# Altium integrated library TI_Logic_Specialty_Logic.IntLib: 2504 symbols (part 57 of 81)
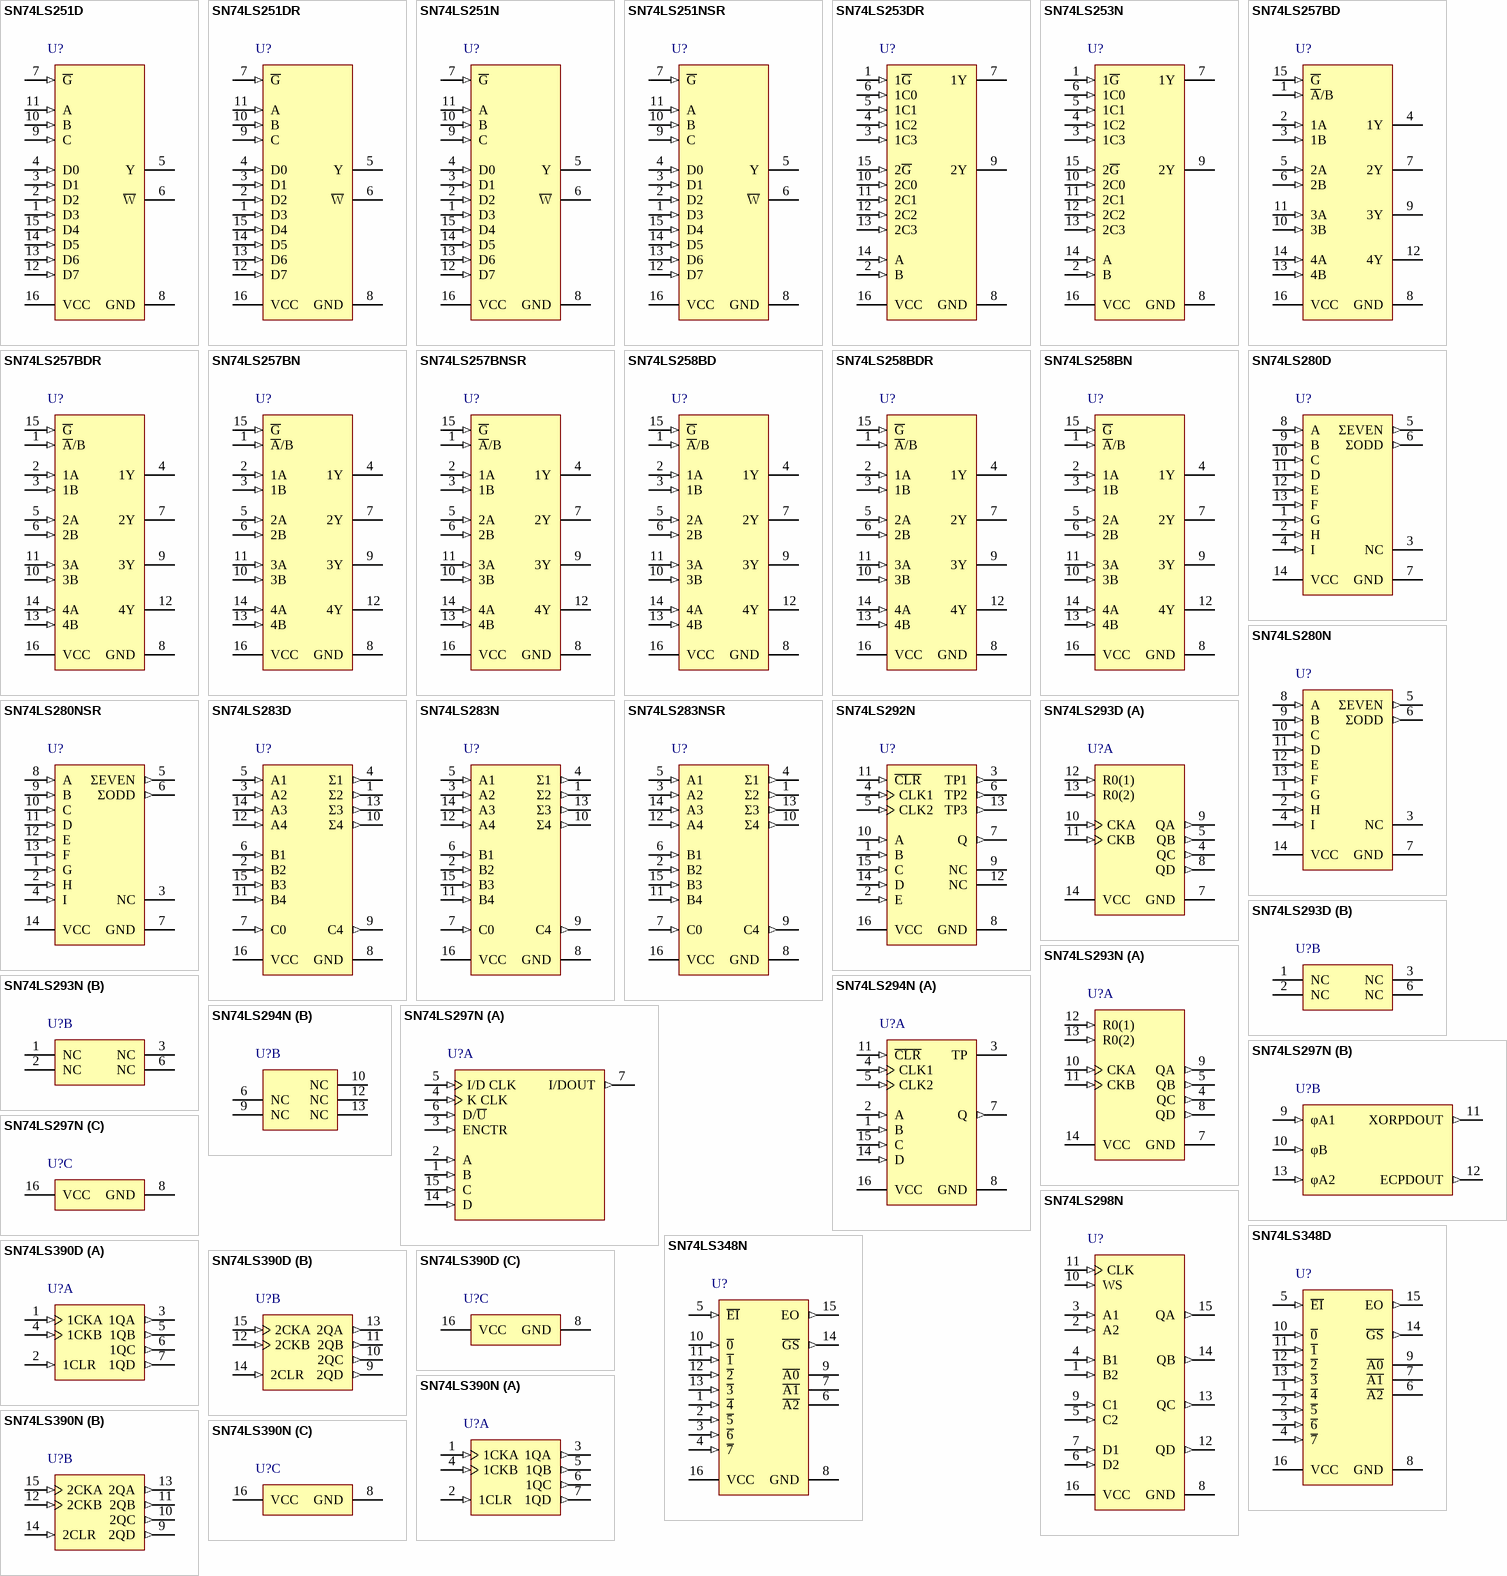
[diagram p160: symbols SN74LS251D to SN74LS390N]

## SN74LS348N
designator U?
8-Line To 3-Line Priority Encoder, N0016A, TUBE; Generic Part Number: SN74LS348; Manufacturer: Texas Instruments; PartNumber: SN74LS348N; VCC(Min)(V): 4.75; VCC(Max)(V): 5.25; Output Type: TTL; Function: Encoder/Multiplexer; ICC @ Nom Voltage(Max)(mA): 25; Bits(#): 8; F @ Nom Voltage(Max)(Mhz): 35; Configuration: 8：3; Channels(#): 1; Rating: Catalog; Technology Family: LS; Voltage(Nom)(V): 5; Schmitt Trigger: No; Output Drive (IOL/IOH)(Max)(mA): 24/-2.6; DatasheetVersion: SDLS161; PackageReference: N0016A; Supplier 1: Mouser; Supplier Part Number 1: 595-SN74LS348N; Supplier 2: Digi-Key; Supplier Part Number 2: 296-33994-5-ND; Input Type: TTL; Operating Temperature Range(C): 0 to 70; Type: 3-State Output; tpd @ Nom Voltage(Max)(ns): 35; Code_JEDEC: MS-001; ComponentLink1Description: Manufacturer URL; ComponentLink1URL: http://www.ti.com/; ComponentLink2Description: Datasheet; ComponentLink2URL: http://www.ti.com/lit/ds/symlink/sn74ls348.pdf; ComponentLink3Description: Package Specification; ComponentLink3URL: http://www.ti.com/lit/ml/mpdi002c/mpdi002c.pdf
footprint N0016A (DIP, 16-Leads, Body 19.7x6.6mm, Pitch 2.54mm)
pins: 1 ~{4} (in), 2 ~{5} (in), 3 ~{6} (in), 4 ~{7} (in), 5 ~{EI} (in), 6 ~{A2} (hiz), 7 ~{A1} (hiz), 8 GND (power), 9 ~{A0} (hiz), 10 ~{0} (in), 11 ~{1} (in), 12 ~{2} (in), 13 ~{3} (in), 14 ~{GS} (out), 15 EO (out), 16 VCC (power)

## SN74LS390D
designator U?
Dual 4-Bit Decade Counters, D0016A, TUBE; Generic Part Number: SN74LS390; Manufacturer: Texas Instruments; PartNumber: SN74LS390D; VCC(Min)(V): 4.75; VCC(Max)(V): 5.25; Output Type: CMOS; Inputs: 1; ICC @ Nom Voltage(Max)(mA): 26; Input Type: TTL; Bits(#): 4; F @ Nom Voltage(Max)(Mhz): 35; Rating: Catalog; Technology Family: LS; Voltage(Nom)(V): 5; Schmitt Trigger: No; Output Drive (IOL/IOH)(Max)(mA): 8/-0.4; tpd @ Nom Voltage(Max)(ns): 60; DatasheetVersion: SDLS107; PackageReference: D0016A; Supplier 1: Mouser; Supplier Part Number 1: 595-SN74LS390D; Supplier 2: Digi-Key; Supplier Part Number 2: 296-34004-5-ND; Function: Counter; Operating Temperature Range(C): 0 to 70; Type: Decade; Code_JEDEC: MS-012 variation AC; ComponentLink1Description: Manufacturer URL; ComponentLink1URL: http://www.ti.com/; ComponentLink2Description: Datasheet; ComponentLink2URL: http://www.ti.com/lit/ds/symlink/sn74ls390.pdf; ComponentLink3Description: Package Specification; ComponentLink3URL: http://www.ti.com/lit/ml/mpds178g/mpds178g.pdf
footprint D0016A_N (SOIC, 16-Leads, Body 10x4mm, Pitch 1.27mm, IPC Medium Density)
footprint D0016A_M (SOIC, 16-Leads, Body 10x4mm, Pitch 1.27mm, IPC Low Density)
footprint D0016A_L (SOIC, 16-Leads, Body 10x4mm, Pitch 1.27mm, IPC High Density)
part A pins: 1 1CKA (in), 2 1CLR (in), 3 1QA (out), 4 1CKB (in), 5 1QB (out), 6 1QC (out), 7 1QD (out)
part B pins: 9 2QD (out), 10 2QC (out), 11 2QB (out), 12 2CKB (in), 13 2QA (out), 14 2CLR (in), 15 2CKA (in)
part C pins: 8 GND (power), 16 VCC (power)

## SN74LS390N
designator U?
Dual 4-Bit Decade Counters, N0016A, TUBE; Generic Part Number: SN74LS390; Manufacturer: Texas Instruments; PartNumber: SN74LS390N; VCC(Min)(V): 4.75; VCC(Max)(V): 5.25; Output Type: CMOS; Inputs: 1; ICC @ Nom Voltage(Max)(mA): 26; Input Type: TTL; Bits(#): 4; F @ Nom Voltage(Max)(Mhz): 35; Rating: Catalog; Technology Family: LS; Voltage(Nom)(V): 5; Schmitt Trigger: No; Output Drive (IOL/IOH)(Max)(mA): 8/-0.4; tpd @ Nom Voltage(Max)(ns): 60; DatasheetVersion: SDLS107; PackageReference: N0016A; Supplier 1: Mouser; Supplier Part Number 1: 595-SN74LS390N; Supplier 2: Digi-Key; Supplier Part Number 2: 296-26516-5-ND; Function: Counter; Operating Temperature Range(C): 0 to 70; Type: Decade; Code_JEDEC: MS-001; ComponentLink1Description: Manufacturer URL; ComponentLink1URL: http://www.ti.com/; ComponentLink2Description: Datasheet; ComponentLink2URL: http://www.ti.com/lit/ds/symlink/sn74ls390.pdf; ComponentLink3Description: Package Specification; ComponentLink3URL: http://www.ti.com/lit/ml/mpdi002c/mpdi002c.pdf
footprint N0016A (DIP, 16-Leads, Body 19.7x6.6mm, Pitch 2.54mm)
part A pins: 1 1CKA (in), 2 1CLR (in), 3 1QA (out), 4 1CKB (in), 5 1QB (out), 6 1QC (out), 7 1QD (out)
part B pins: 9 2QD (out), 10 2QC (out), 11 2QB (out), 12 2CKB (in), 13 2QA (out), 14 2CLR (in), 15 2CKA (in)
part C pins: 8 GND (power), 16 VCC (power)

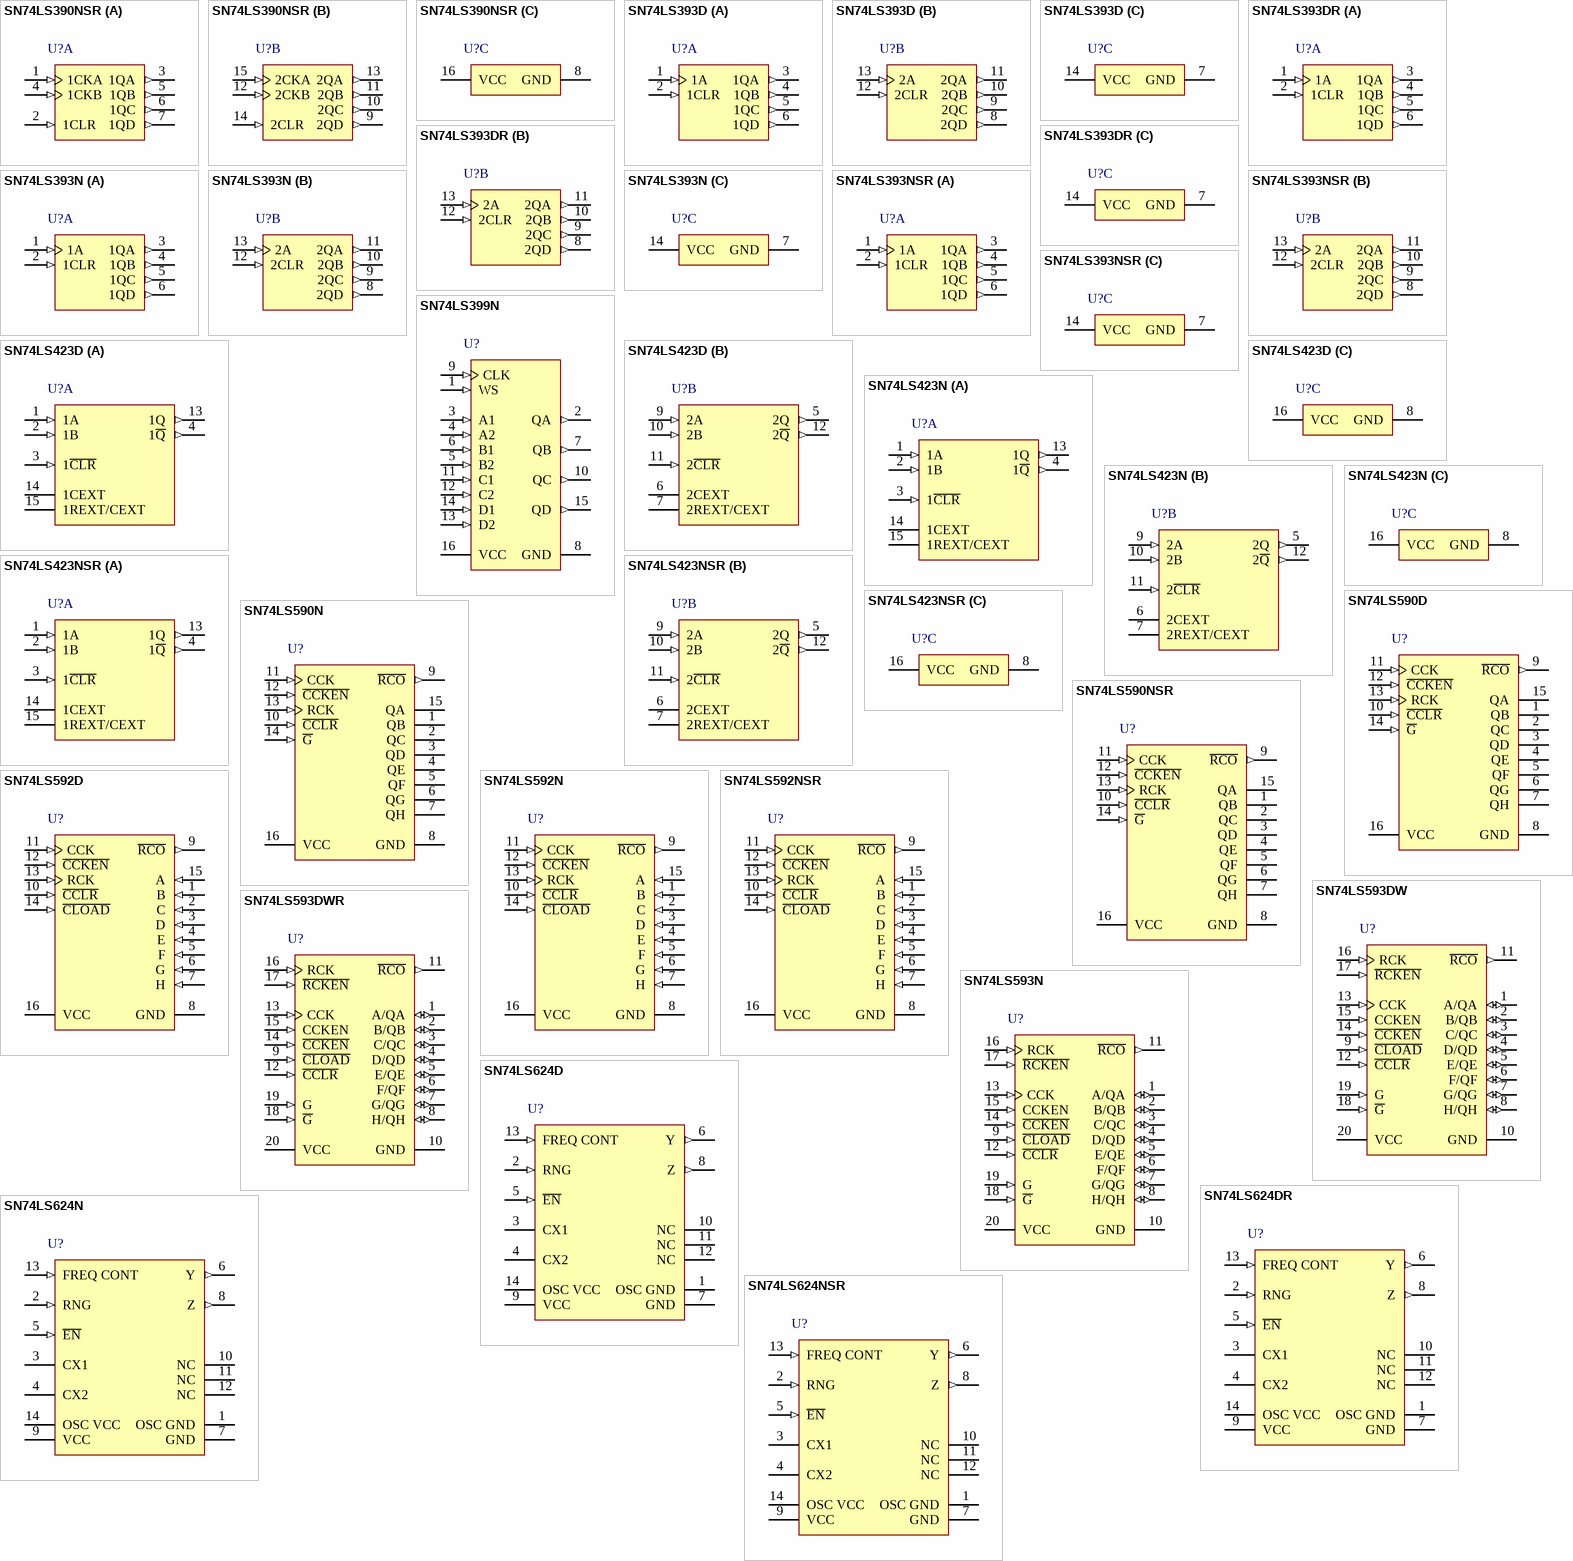
[diagram p71: symbols SN74LS390NSR to SN74LS624NSR]

## SN74LS390NSR
designator U?
Dual 4-Bit Decade Counters, NS0016A, LARGE T&R; Generic Part Number: SN74LS390; Manufacturer: Texas Instruments; PartNumber: SN74LS390NSR; VCC(Min)(V): 4.75; VCC(Max)(V): 5.25; Output Type: CMOS; Inputs: 1; ICC @ Nom Voltage(Max)(mA): 26; Input Type: TTL; Bits(#): 4; F @ Nom Voltage(Max)(Mhz): 35; Rating: Catalog; Technology Family: LS; Voltage(Nom)(V): 5; Schmitt Trigger: No; Output Drive (IOL/IOH)(Max)(mA): 8/-0.4; tpd @ Nom Voltage(Max)(ns): 60; DatasheetVersion: SDLS107; PackageReference: NS0016A; Supplier 1: Mouser; Supplier Part Number 1: 595-SN74LS390NSR; Supplier 2: Digi-Key; Supplier Part Number 2: SN74LS390NSR-ND; Function: Counter; Operating Temperature Range(C): 0 to 70; Type: Decade; ComponentLink1Description: Manufacturer URL; ComponentLink1URL: http://www.ti.com/; ComponentLink2Description: Datasheet; ComponentLink2URL: http://www.ti.com/lit/ds/symlink/sn74ls390.pdf; ComponentLink3Description: Package Specification; ComponentLink3URL: http://www.ti.com/lit/ml/msop002a/msop002a.pdf
footprint NS0016A_N (SOIC,16-Leads,Body 10.5x5.6mm,Pitch 1.27mm,IPC Medium Density)
footprint NS0016A_M (SOIC,16-Leads,Body 10.5x5.6mm,Pitch 1.27mm,IPC Low Density)
footprint NS0016A_L (SOIC,16-Leads,Body 10.5x5.6mm,Pitch 1.27mm,IPC High Density)
part A pins: 1 1CKA (in), 2 1CLR (in), 3 1QA (out), 4 1CKB (in), 5 1QB (out), 6 1QC (out), 7 1QD (out)
part B pins: 9 2QD (out), 10 2QC (out), 11 2QB (out), 12 2CKB (in), 13 2QA (out), 14 2CLR (in), 15 2CKA (in)
part C pins: 8 GND (power), 16 VCC (power)

## SN74LS393D
designator U?
Dual 4-Bit Binary Counters, D0014A, TUBE; Generic Part Number: SN74LS393; Manufacturer: Texas Instruments; PartNumber: SN74LS393D; VCC(Min)(V): 4.75; VCC(Max)(V): 5.25; Output Type: CMOS; Inputs: 1; ICC @ Nom Voltage(Max)(mA): 26; Input Type: TTL; Bits(#): 4; F @ Nom Voltage(Max)(Mhz): 35; Rating: Catalog; Technology Family: LS; Voltage(Nom)(V): 5; Schmitt Trigger: No; Output Drive (IOL/IOH)(Max)(mA): 8/-0.4; tpd @ Nom Voltage(Max)(ns): 60; DatasheetVersion: SDLS107; PackageReference: D0014A; Supplier 1: Mouser; Supplier Part Number 1: 595-SN74LS393D; Supplier 2: Digi-Key; Supplier Part Number 2: 296-3705-5-ND; Function: Counter; Operating Temperature Range(C): 0 to 70; Type: Decade; Code_JEDEC: MS-012; ComponentLink1Description: Manufacturer URL; ComponentLink1URL: http://www.ti.com/; ComponentLink2Description: Datasheet; ComponentLink2URL: http://www.ti.com/lit/ds/symlink/sn74ls393.pdf; ComponentLink3Description: Package Specification; ComponentLink3URL: http://www.ti.com/lit/ml/mpds177g/mpds177g.pdf
footprint D0014A_N (SOIC, 14-Leads, Body 8.75x4mm, Pitch 1.27mm, IPC Medium Density)
footprint D0014A_M (SOIC, 14-Leads, Body 8.75x4mm, Pitch 1.27mm, IPC Low Density)
footprint D0014A_L (SOIC, 14-Leads, Body 8.75x4mm, Pitch 1.27mm, IPC High Density)
part A pins: 1 1A (in), 2 1CLR (in), 3 1QA (out), 4 1QB (out), 5 1QC (out), 6 1QD (out)
part B pins: 8 2QD (out), 9 2QC (out), 10 2QB (out), 11 2QA (out), 12 2CLR (in), 13 2A (in)
part C pins: 7 GND (power), 14 VCC (power)

## SN74LS393DR
designator U?
Dual 4-Bit Binary Counters, D0014A, LARGE T&R; Generic Part Number: SN74LS393; Manufacturer: Texas Instruments; PartNumber: SN74LS393DR; VCC(Min)(V): 4.75; VCC(Max)(V): 5.25; Output Type: CMOS; Inputs: 1; ICC @ Nom Voltage(Max)(mA): 26; Input Type: TTL; Bits(#): 4; F @ Nom Voltage(Max)(Mhz): 35; Rating: Catalog; Technology Family: LS; Voltage(Nom)(V): 5; Schmitt Trigger: No; Output Drive (IOL/IOH)(Max)(mA): 8/-0.4; tpd @ Nom Voltage(Max)(ns): 60; DatasheetVersion: SDLS107; PackageReference: D0014A; Supplier 1: Mouser; Supplier Part Number 1: 595-SN74LS393DR; Supplier 2: Digi-Key; Supplier Part Number 2: 296-29007-2-ND; Supplier 3: Digi-Key; Supplier Part Number 3: 296-29007-1-ND; Supplier 4: Digi-Key; Supplier Part Number 4: 296-29007-6-ND; Function: Counter; Operating Temperature Range(C): 0 to 70; Type: Decade; Code_JEDEC: MS-012; ComponentLink1Description: Manufacturer URL; ComponentLink1URL: http://www.ti.com/; ComponentLink2Description: Datasheet; ComponentLink2URL: http://www.ti.com/lit/ds/symlink/sn74ls393.pdf; ComponentLink3Description: Package Specification; ComponentLink3URL: http://www.ti.com/lit/ml/mpds177g/mpds177g.pdf
footprint D0014A_N (SOIC, 14-Leads, Body 8.75x4mm, Pitch 1.27mm, IPC Medium Density)
footprint D0014A_M (SOIC, 14-Leads, Body 8.75x4mm, Pitch 1.27mm, IPC Low Density)
footprint D0014A_L (SOIC, 14-Leads, Body 8.75x4mm, Pitch 1.27mm, IPC High Density)
part A pins: 1 1A (in), 2 1CLR (in), 3 1QA (out), 4 1QB (out), 5 1QC (out), 6 1QD (out)
part B pins: 8 2QD (out), 9 2QC (out), 10 2QB (out), 11 2QA (out), 12 2CLR (in), 13 2A (in)
part C pins: 7 GND (power), 14 VCC (power)

## SN74LS393N
designator U?
Dual 4-Bit Binary Counters, N0014A, TUBE; Generic Part Number: SN74LS393; Manufacturer: Texas Instruments; PartNumber: SN74LS393N; VCC(Min)(V): 4.75; VCC(Max)(V): 5.25; Output Type: CMOS; Inputs: 1; ICC @ Nom Voltage(Max)(mA): 26; Input Type: TTL; Bits(#): 4; F @ Nom Voltage(Max)(Mhz): 35; Rating: Catalog; Technology Family: LS; Voltage(Nom)(V): 5; Schmitt Trigger: No; Output Drive (IOL/IOH)(Max)(mA): 8/-0.4; tpd @ Nom Voltage(Max)(ns): 60; DatasheetVersion: SDLS107; PackageReference: N0014A; Supplier 1: Mouser; Supplier Part Number 1: 595-SN74LS393N; Supplier 2: Digi-Key; Supplier Part Number 2: 296-1665-5-ND; Function: Counter; Operating Temperature Range(C): 0 to 70; Type: Decade; Code_JEDEC: MS-001; ComponentLink1Description: Manufacturer URL; ComponentLink1URL: http://www.ti.com/; ComponentLink2Description: Datasheet; ComponentLink2URL: http://www.ti.com/lit/ds/symlink/sn74ls393.pdf; ComponentLink3Description: Package Specification; ComponentLink3URL: http://www.ti.com/lit/ml/mpdi002c/mpdi002c.pdf
footprint N0014A (DIP, 14-Leads, Body 19.7x6.6mm, Pitch 2.54mm)
part A pins: 1 1A (in), 2 1CLR (in), 3 1QA (out), 4 1QB (out), 5 1QC (out), 6 1QD (out)
part B pins: 8 2QD (out), 9 2QC (out), 10 2QB (out), 11 2QA (out), 12 2CLR (in), 13 2A (in)
part C pins: 7 GND (power), 14 VCC (power)

## SN74LS393NSR
designator U?
Dual 4-Bit Binary Counters, NS0014A, LARGE T&R; Generic Part Number: SN74LS393; Manufacturer: Texas Instruments; PartNumber: SN74LS393NSR; VCC(Min)(V): 4.75; VCC(Max)(V): 5.25; Output Type: CMOS; Inputs: 1; ICC @ Nom Voltage(Max)(mA): 26; Input Type: TTL; Bits(#): 4; F @ Nom Voltage(Max)(Mhz): 35; Rating: Catalog; Technology Family: LS; Voltage(Nom)(V): 5; Schmitt Trigger: No; Output Drive (IOL/IOH)(Max)(mA): 8/-0.4; tpd @ Nom Voltage(Max)(ns): 60; DatasheetVersion: SDLS107; PackageReference: NS0014A; Supplier 1: Mouser; Supplier Part Number 1: 595-SN74LS393NSR; Supplier 2: Digi-Key; Supplier Part Number 2: 296-29918-2-ND; Supplier 3: Digi-Key; Supplier Part Number 3: 296-29918-1-ND; Supplier 4: Digi-Key; Supplier Part Number 4: 296-29918-6-ND; Function: Counter; Operating Temperature Range(C): 0 to 70; Type: Decade; ComponentLink1Description: Manufacturer URL; ComponentLink1URL: http://www.ti.com/; ComponentLink2Description: Datasheet; ComponentLink2URL: http://www.ti.com/lit/ds/symlink/sn74ls393.pdf; ComponentLink3Description: Package Specification; ComponentLink3URL: http://www.ti.com/lit/ml/msop002a/msop002a.pdf
footprint NS0014A_N (SOIC,14-Leads,Body 10.5x5.6mm,Pitch 1.27mm,IPC Medium Density)
footprint NS0014A_M (SOIC,14-Leads,Body 10.5x5.6mm,Pitch 1.27mm,IPC Low Density)
footprint NS0014A_L (SOIC,14-Leads,Body 10.5x5.6mm,Pitch 0.4mm,IPC High Density)
part A pins: 1 1A (in), 2 1CLR (in), 3 1QA (out), 4 1QB (out), 5 1QC (out), 6 1QD (out)
part B pins: 8 2QD (out), 9 2QC (out), 10 2QB (out), 11 2QA (out), 12 2CLR (in), 13 2A (in)
part C pins: 7 GND (power), 14 VCC (power)

## SN74LS399N
designator U?
Quadruple 2-Input Multiplexers With Storage, N0016A, TUBE; Generic Part Number: SN74LS399; Manufacturer: Texas Instruments; PartNumber: SN74LS399N; VCC(Min)(V): 4.75; VCC(Max)(V): 5.25; Output Type: TTL; Function: Decoder/Demultiplexer; ICC @ Nom Voltage(Max)(mA): 13; Bits(#): 2; F @ Nom Voltage(Max)(Mhz): 35; Configuration: 2：1; Channels(#): 4; Rating: Catalog; Technology Family: LS; Voltage(Nom)(V): 5; Schmitt Trigger: No; Output Drive (IOL/IOH)(Max)(mA): 8/-0.4; tpd @ Nom Voltage(Max)(ns): 32; DatasheetVersion: SDLS174; PackageReference: N0016A; Supplier 1: Mouser; Supplier Part Number 1: 595-SN74LS399N; Supplier 2: Digi-Key; Supplier Part Number 2: 296-14895-5-ND; Input Type: TTL; Operating Temperature Range(C): 0 to 70; Type: Standard; Code_JEDEC: MS-001; ComponentLink1Description: Manufacturer URL; ComponentLink1URL: http://www.ti.com/; ComponentLink2Description: Datasheet; ComponentLink2URL: http://www.ti.com/lit/ds/symlink/sn74ls399.pdf; ComponentLink3Description: Package Specification; ComponentLink3URL: http://www.ti.com/lit/ml/mpdi002c/mpdi002c.pdf
footprint N0016A (DIP, 16-Leads, Body 19.7x6.6mm, Pitch 2.54mm)
pins: 1 WS (in), 2 QA (out), 3 A1 (in), 4 A2 (in), 5 B2 (in), 6 B1 (in), 7 QB (out), 8 GND (power), 9 CLK (in), 10 QC (out), 11 C1 (in), 12 C2 (in), 13 D2 (in), 14 D1 (in), 15 QD (out), 16 VCC (power)

## SN74LS423D
designator U?
Dual Retriggerable Monostable Multivibrators, D0016A, TUBE; Generic Part Number: SN74LS423; Manufacturer: Texas Instruments; PartNumber: SN74LS423D; VCC(Min)(V): 4.75; VCC(Max)(V): 5.25; Output Type: TTL; ICC @ Nom Voltage(Max)(mA): 20; Bits(#): 2; F @ Nom Voltage(Max)(Mhz): 35; Rating: Catalog; Technology Family: LS; Voltage(Nom)(V): 5; Schmitt Trigger: No; Output Drive (IOL/IOH)(Max)(mA): 8/-0.4; tpd @ Nom Voltage(Max)(ns): 56; DatasheetVersion: SDLS175; PackageReference: D0016A; Supplier 1: Mouser; Supplier Part Number 1: 595-SN74LS423D; Supplier 2: Digi-Key; Supplier Part Number 2: 296-3706-5-ND; Input Type: TTL; Operating Temperature Range(C): 0 to 70; Code_JEDEC: MS-012 variation AC; ComponentLink1Description: Manufacturer URL; ComponentLink1URL: http://www.ti.com/; ComponentLink2Description: Datasheet; ComponentLink2URL: http://www.ti.com/lit/ds/symlink/sn74ls423.pdf; ComponentLink3Description: Package Specification; ComponentLink3URL: http://www.ti.com/lit/ml/mpds178g/mpds178g.pdf
footprint D0016A_N (SOIC, 16-Leads, Body 10x4mm, Pitch 1.27mm, IPC Medium Density)
footprint D0016A_M (SOIC, 16-Leads, Body 10x4mm, Pitch 1.27mm, IPC Low Density)
footprint D0016A_L (SOIC, 16-Leads, Body 10x4mm, Pitch 1.27mm, IPC High Density)
part A pins: 1 1A (in), 2 1B (in), 3 1~{CLR} (in), 4 1~{Q} (out), 13 1Q (out), 14 1CEXT, 15 1REXT/CEXT
part B pins: 5 2Q (out), 6 2CEXT, 7 2REXT/CEXT, 9 2A (in), 10 2B (in), 11 2~{CLR} (in), 12 2~{Q} (out)
part C pins: 8 GND (power), 16 VCC (power)

## SN74LS423N
designator U?
Dual Retriggerable Monostable Multivibrators, N0016A, TUBE; Generic Part Number: SN74LS423; Manufacturer: Texas Instruments; PartNumber: SN74LS423N; VCC(Min)(V): 4.75; VCC(Max)(V): 5.25; Output Type: TTL; ICC @ Nom Voltage(Max)(mA): 20; Bits(#): 2; F @ Nom Voltage(Max)(Mhz): 35; Rating: Catalog; Technology Family: LS; Voltage(Nom)(V): 5; Schmitt Trigger: No; Output Drive (IOL/IOH)(Max)(mA): 8/-0.4; tpd @ Nom Voltage(Max)(ns): 56; DatasheetVersion: SDLS175; PackageReference: N0016A; Supplier 1: Mouser; Supplier Part Number 1: 595-SN74LS423N; Supplier 2: Digi-Key; Supplier Part Number 2: 296-3707-5-ND; Input Type: TTL; Operating Temperature Range(C): 0 to 70; Code_JEDEC: MS-001; ComponentLink1Description: Manufacturer URL; ComponentLink1URL: http://www.ti.com/; ComponentLink2Description: Datasheet; ComponentLink2URL: http://www.ti.com/lit/ds/symlink/sn74ls423.pdf; ComponentLink3Description: Package Specification; ComponentLink3URL: http://www.ti.com/lit/ml/mpdi002c/mpdi002c.pdf
footprint N0016A (DIP, 16-Leads, Body 19.7x6.6mm, Pitch 2.54mm)
part A pins: 1 1A (in), 2 1B (in), 3 1~{CLR} (in), 4 1~{Q} (out), 13 1Q (out), 14 1CEXT, 15 1REXT/CEXT
part B pins: 5 2Q (out), 6 2CEXT, 7 2REXT/CEXT, 9 2A (in), 10 2B (in), 11 2~{CLR} (in), 12 2~{Q} (out)
part C pins: 8 GND (power), 16 VCC (power)

## SN74LS423NSR
designator U?
Dual Retriggerable Monostable Multivibrators, NS0016A, LARGE T&R; Generic Part Number: SN74LS423; Manufacturer: Texas Instruments; PartNumber: SN74LS423NSR; VCC(Min)(V): 4.75; VCC(Max)(V): 5.25; Output Type: TTL; ICC @ Nom Voltage(Max)(mA): 20; Bits(#): 2; F @ Nom Voltage(Max)(Mhz): 35; Rating: Catalog; Technology Family: LS; Voltage(Nom)(V): 5; Schmitt Trigger: No; Output Drive (IOL/IOH)(Max)(mA): 8/-0.4; tpd @ Nom Voltage(Max)(ns): 56; DatasheetVersion: SDLS175; PackageReference: NS0016A; Supplier 1: Mouser; Supplier Part Number 1: 595-SN74LS423NSR; Supplier 2: Digi-Key; Supplier Part Number 2: 296-28944-2-ND; Supplier 3: Digi-Key; Supplier Part Number 3: 296-28944-1-ND; Supplier 4: Digi-Key; Supplier Part Number 4: 296-28944-6-ND; Input Type: TTL; Operating Temperature Range(C): 0 to 70; ComponentLink1Description: Manufacturer URL; ComponentLink1URL: http://www.ti.com/; ComponentLink2Description: Datasheet; ComponentLink2URL: http://www.ti.com/lit/ds/symlink/sn74ls423.pdf; ComponentLink3Description: Package Specification; ComponentLink3URL: http://www.ti.com/lit/ml/msop002a/msop002a.pdf
footprint NS0016A_N (SOIC,16-Leads,Body 10.5x5.6mm,Pitch 1.27mm,IPC Medium Density)
footprint NS0016A_M (SOIC,16-Leads,Body 10.5x5.6mm,Pitch 1.27mm,IPC Low Density)
footprint NS0016A_L (SOIC,16-Leads,Body 10.5x5.6mm,Pitch 1.27mm,IPC High Density)
part A pins: 1 1A (in), 2 1B (in), 3 1~{CLR} (in), 4 1~{Q} (out), 13 1Q (out), 14 1CEXT, 15 1REXT/CEXT
part B pins: 5 2Q (out), 6 2CEXT, 7 2REXT/CEXT, 9 2A (in), 10 2B (in), 11 2~{CLR} (in), 12 2~{Q} (out)
part C pins: 8 GND (power), 16 VCC (power)

## SN74LS590D
designator U?
8-Bit Binary Counters With Output Registers And 3-State Outputs, D0016A, TUBE; Generic Part Number: SN74LS590; Manufacturer: Texas Instruments; PartNumber: SN74LS590D; VCC(Min)(V): 4.75; VCC(Max)(V): 5.25; Output Type: CMOS; Inputs: 1; ICC @ Nom Voltage(Max)(mA): 65; Input Type: TTL; Bits(#): 8; F @ Nom Voltage(Max)(Mhz): 35; Rating: Catalog; Technology Family: LS; Voltage(Nom)(V): 5; Schmitt Trigger: No; Output Drive (IOL/IOH)(Max)(mA): 24/-2.6; tpd @ Nom Voltage(Max)(ns): 45; DatasheetVersion: SDLS003; PackageReference: D0016A; Supplier 1: Mouser; Supplier Part Number 1: 595-SN74LS590D; Supplier 2: Digi-Key; Supplier Part Number 2: 296-3717-5-ND; Function: Counter; Operating Temperature Range(C): 0 to 70; Type: Binary; Code_JEDEC: MS-012 variation AC; ComponentLink1Description: Manufacturer URL; ComponentLink1URL: http://www.ti.com/; ComponentLink2Description: Datasheet; ComponentLink2URL: http://www.ti.com/lit/ds/symlink/sn74ls590.pdf; ComponentLink3Description: Package Specification; ComponentLink3URL: http://www.ti.com/lit/ml/mpds178g/mpds178g.pdf
footprint D0016A_N (SOIC, 16-Leads, Body 10x4mm, Pitch 1.27mm, IPC Medium Density)
footprint D0016A_M (SOIC, 16-Leads, Body 10x4mm, Pitch 1.27mm, IPC Low Density)
footprint D0016A_L (SOIC, 16-Leads, Body 10x4mm, Pitch 1.27mm, IPC High Density)
pins: 1 QB (hiz), 2 QC (hiz), 3 QD (hiz), 4 QE (hiz), 5 QF (hiz), 6 QG (hiz), 7 QH (hiz), 8 GND (power), 9 ~{RCO} (out), 10 ~{CCLR} (in), 11 CCK (in), 12 ~{CCKEN} (in), 13 RCK (in), 14 ~{G} (in), 15 QA (hiz), 16 VCC (power)

## SN74LS590N
designator U?
8-Bit Binary Counters With Output Registers And 3-State Outputs, N0016A, TUBE; Generic Part Number: SN74LS590; Manufacturer: Texas Instruments; PartNumber: SN74LS590N; VCC(Min)(V): 4.75; VCC(Max)(V): 5.25; Output Type: CMOS; Inputs: 1; ICC @ Nom Voltage(Max)(mA): 65; Input Type: TTL; Bits(#): 8; F @ Nom Voltage(Max)(Mhz): 35; Rating: Catalog; Technology Family: LS; Voltage(Nom)(V): 5; Schmitt Trigger: No; Output Drive (IOL/IOH)(Max)(mA): 24/-2.6; tpd @ Nom Voltage(Max)(ns): 45; DatasheetVersion: SDLS003; PackageReference: N0016A; Supplier 1: Mouser; Supplier Part Number 1: 595-SN74LS590N; Supplier 2: Digi-Key; Supplier Part Number 2: 296-3718-5-ND; Function: Counter; Operating Temperature Range(C): 0 to 70; Type: Binary; Code_JEDEC: MS-001; ComponentLink1Description: Manufacturer URL; ComponentLink1URL: http://www.ti.com/; ComponentLink2Description: Datasheet; ComponentLink2URL: http://www.ti.com/lit/ds/symlink/sn74ls590.pdf; ComponentLink3Description: Package Specification; ComponentLink3URL: http://www.ti.com/lit/ml/mpdi002c/mpdi002c.pdf
footprint N0016A (DIP, 16-Leads, Body 19.7x6.6mm, Pitch 2.54mm)
pins: 1 QB (hiz), 2 QC (hiz), 3 QD (hiz), 4 QE (hiz), 5 QF (hiz), 6 QG (hiz), 7 QH (hiz), 8 GND (power), 9 ~{RCO} (out), 10 ~{CCLR} (in), 11 CCK (in), 12 ~{CCKEN} (in), 13 RCK (in), 14 ~{G} (in), 15 QA (hiz), 16 VCC (power)

## SN74LS590NSR
designator U?
8-Bit Binary Counters With Output Registers And 3-State Outputs, NS0016A, LARGE T&R; Generic Part Number: SN74LS590; Manufacturer: Texas Instruments; PartNumber: SN74LS590NSR; VCC(Min)(V): 4.75; VCC(Max)(V): 5.25; Output Type: CMOS; Inputs: 1; ICC @ Nom Voltage(Max)(mA): 65; Input Type: TTL; Bits(#): 8; F @ Nom Voltage(Max)(Mhz): 35; Rating: Catalog; Technology Family: LS; Voltage(Nom)(V): 5; Schmitt Trigger: No; Output Drive (IOL/IOH)(Max)(mA): 24/-2.6; tpd @ Nom Voltage(Max)(ns): 45; DatasheetVersion: SDLS003; PackageReference: NS0016A; Supplier 1: Mouser; Supplier Part Number 1: 595-SN74LS590NSR; Supplier 2: Digi-Key; Supplier Part Number 2: 296-29929-2-ND; Supplier 3: Digi-Key; Supplier Part Number 3: 296-29929-1-ND; Supplier 4: Digi-Key; Supplier Part Number 4: 296-29929-6-ND; Function: Counter; Operating Temperature Range(C): 0 to 70; Type: Binary; ComponentLink1Description: Manufacturer URL; ComponentLink1URL: http://www.ti.com/; ComponentLink2Description: Datasheet; ComponentLink2URL: http://www.ti.com/lit/ds/symlink/sn74ls590.pdf; ComponentLink3Description: Package Specification; ComponentLink3URL: http://www.ti.com/lit/ml/msop002a/msop002a.pdf
footprint NS0016A_N (SOIC,16-Leads,Body 10.5x5.6mm,Pitch 1.27mm,IPC Medium Density)
footprint NS0016A_M (SOIC,16-Leads,Body 10.5x5.6mm,Pitch 1.27mm,IPC Low Density)
footprint NS0016A_L (SOIC,16-Leads,Body 10.5x5.6mm,Pitch 1.27mm,IPC High Density)
pins: 1 QB (hiz), 2 QC (hiz), 3 QD (hiz), 4 QE (hiz), 5 QF (hiz), 6 QG (hiz), 7 QH (hiz), 8 GND (power), 9 ~{RCO} (out), 10 ~{CCLR} (in), 11 CCK (in), 12 ~{CCKEN} (in), 13 RCK (in), 14 ~{G} (in), 15 QA (hiz), 16 VCC (power)

## SN74LS592D
designator U?
8-Bit Binary Counters With Input Registers, D0016A, TUBE; Generic Part Number: SN74LS592; Manufacturer: Texas Instruments; PartNumber: SN74LS592D; VCC(Min)(V): 4.75; VCC(Max)(V): 5.25; Output Type: CMOS; Inputs: 1; ICC @ Nom Voltage(Max)(mA): 60; Input Type: TTL; Bits(#): 8; F @ Nom Voltage(Max)(Mhz): 35; Rating: Catalog; Technology Family: LS; Voltage(Nom)(V): 5; Schmitt Trigger: No; Output Drive (IOL/IOH)(Max)(mA): 24/-2.6; tpd @ Nom Voltage(Max)(ns): 53; DatasheetVersion: SDLS004; PackageReference: D0016A; Supplier 1: Mouser; Supplier Part Number 1: 595-SN74LS592D; Supplier 2: Digi-Key; Supplier Part Number 2: 296-34008-5-ND; Function: Counter; Operating Temperature Range(C): 0 to 70; Type: Binary; Code_JEDEC: MS-012 variation AC; ComponentLink1Description: Manufacturer URL; ComponentLink1URL: http://www.ti.com/; ComponentLink2Description: Datasheet; ComponentLink2URL: http://www.ti.com/lit/ds/symlink/sn74ls592.pdf; ComponentLink3Description: Package Specification; ComponentLink3URL: http://www.ti.com/lit/ml/mpds178g/mpds178g.pdf
footprint D0016A_N (SOIC, 16-Leads, Body 10x4mm, Pitch 1.27mm, IPC Medium Density)
footprint D0016A_M (SOIC, 16-Leads, Body 10x4mm, Pitch 1.27mm, IPC Low Density)
footprint D0016A_L (SOIC, 16-Leads, Body 10x4mm, Pitch 1.27mm, IPC High Density)
pins: 1 B (in), 2 C (in), 3 D (in), 4 E (in), 5 F (in), 6 G (in), 7 H (in), 8 GND (power), 9 ~{RCO} (out), 10 ~{CCLR} (in), 11 CCK (in), 12 ~{CCKEN} (in), 13 RCK (in), 14 ~{CLOAD} (in), 15 A (in), 16 VCC (power)

## SN74LS592N
designator U?
8-Bit Binary Counters With Input Registers, N0016A, TUBE; Generic Part Number: SN74LS592; Manufacturer: Texas Instruments; PartNumber: SN74LS592N; VCC(Min)(V): 4.75; VCC(Max)(V): 5.25; Output Type: CMOS; Inputs: 1; ICC @ Nom Voltage(Max)(mA): 60; Input Type: TTL; Bits(#): 8; F @ Nom Voltage(Max)(Mhz): 35; Rating: Catalog; Technology Family: LS; Voltage(Nom)(V): 5; Schmitt Trigger: No; Output Drive (IOL/IOH)(Max)(mA): 24/-2.6; tpd @ Nom Voltage(Max)(ns): 53; DatasheetVersion: SDLS004; PackageReference: N0016A; Supplier 1: Mouser; Supplier Part Number 1: 595-SN74LS592N; Supplier 2: Digi-Key; Supplier Part Number 2: 296-34009-5-ND; Function: Counter; Operating Temperature Range(C): 0 to 70; Type: Binary; Code_JEDEC: MS-001; ComponentLink1Description: Manufacturer URL; ComponentLink1URL: http://www.ti.com/; ComponentLink2Description: Datasheet; ComponentLink2URL: http://www.ti.com/lit/ds/symlink/sn74ls592.pdf; ComponentLink3Description: Package Specification; ComponentLink3URL: http://www.ti.com/lit/ml/mpdi002c/mpdi002c.pdf
footprint N0016A (DIP, 16-Leads, Body 19.7x6.6mm, Pitch 2.54mm)
pins: 1 B (in), 2 C (in), 3 D (in), 4 E (in), 5 F (in), 6 G (in), 7 H (in), 8 GND (power), 9 ~{RCO} (out), 10 ~{CCLR} (in), 11 CCK (in), 12 ~{CCKEN} (in), 13 RCK (in), 14 ~{CLOAD} (in), 15 A (in), 16 VCC (power)

## SN74LS592NSR
designator U?
8-Bit Binary Counters With Input Registers, NS0016A, LARGE T&R; Generic Part Number: SN74LS592; Manufacturer: Texas Instruments; PartNumber: SN74LS592NSR; VCC(Min)(V): 4.75; VCC(Max)(V): 5.25; Output Type: CMOS; Inputs: 1; ICC @ Nom Voltage(Max)(mA): 60; Input Type: TTL; Bits(#): 8; F @ Nom Voltage(Max)(Mhz): 35; Rating: Catalog; Technology Family: LS; Voltage(Nom)(V): 5; Schmitt Trigger: No; Output Drive (IOL/IOH)(Max)(mA): 24/-2.6; tpd @ Nom Voltage(Max)(ns): 53; DatasheetVersion: SDLS004; PackageReference: NS0016A; Supplier 1: Mouser; Supplier Part Number 1: 595-SN74LS592NSR; Supplier 2: Digi-Key; Supplier Part Number 2: 296-29138-2-ND; Supplier 3: Digi-Key; Supplier Part Number 3: 296-29138-1-ND; Supplier 4: Digi-Key; Supplier Part Number 4: 296-29138-6-ND; Function: Counter; Operating Temperature Range(C): 0 to 70; Type: Binary; ComponentLink1Description: Manufacturer URL; ComponentLink1URL: http://www.ti.com/; ComponentLink2Description: Datasheet; ComponentLink2URL: http://www.ti.com/lit/ds/symlink/sn74ls592.pdf; ComponentLink3Description: Package Specification; ComponentLink3URL: http://www.ti.com/lit/ml/msop002a/msop002a.pdf
footprint NS0016A_N (SOIC,16-Leads,Body 10.5x5.6mm,Pitch 1.27mm,IPC Medium Density)
footprint NS0016A_M (SOIC,16-Leads,Body 10.5x5.6mm,Pitch 1.27mm,IPC Low Density)
footprint NS0016A_L (SOIC,16-Leads,Body 10.5x5.6mm,Pitch 1.27mm,IPC High Density)
pins: 1 B (in), 2 C (in), 3 D (in), 4 E (in), 5 F (in), 6 G (in), 7 H (in), 8 GND (power), 9 ~{RCO} (out), 10 ~{CCLR} (in), 11 CCK (in), 12 ~{CCKEN} (in), 13 RCK (in), 14 ~{CLOAD} (in), 15 A (in), 16 VCC (power)

## SN74LS593DW
designator U?
8-Bit Binary Counters With Input Registers And 3-State Outputs, DW0020A, TUBE; Generic Part Number: SN74LS593; Manufacturer: Texas Instruments; PartNumber: SN74LS593DW; VCC(Min)(V): 4.75; VCC(Max)(V): 5.25; Output Type: CMOS; Inputs: 1; ICC @ Nom Voltage(Max)(mA): 85; Input Type: TTL; Bits(#): 8; F @ Nom Voltage(Max)(Mhz): 35; Rating: Catalog; Technology Family: LS; Voltage(Nom)(V): 5; Schmitt Trigger: No; Output Drive (IOL/IOH)(Max)(mA): 24/-2.6; tpd @ Nom Voltage(Max)(ns): 63; DatasheetVersion: SDLS004; PackageReference: DW0020A; Supplier 1: Mouser; Supplier Part Number 1: 595-SN74LS593DW; Supplier 2: Digi-Key; Supplier Part Number 2: 296-34010-5-ND; Function: Counter; Operating Temperature Range(C): 0 to 70; Type: Binary; Code_JEDEC: MS-013; ComponentLink1Description: Manufacturer URL; ComponentLink1URL: http://www.ti.com/; ComponentLink2Description: Datasheet; ComponentLink2URL: http://www.ti.com/lit/ds/symlink/sn74ls593.pdf; ComponentLink3Description: Package Specification; ComponentLink3URL: http://www.ti.com/lit/ml/mpds173a/mpds173a.pdf
footprint DW0020A_N (SOIC, 20-Leads, Body 13x7.6mm, Pitch 1.27mm, IPC Medium Density)
footprint DW0020A_M (SOIC, 20-Leads, Body 13x7.6mm, Pitch 1.27mm, IPC Low Density)
footprint DW0020A_L (SOIC, 20-Leads, Body 13x7.6mm, Pitch 1.27mm, IPC High Density)
pins: 1 A/QA (io), 2 B/QB (io), 3 C/QC (io), 4 D/QD (io), 5 E/QE (io), 6 F/QF (io), 7 G/QG (io), 8 H/QH (io), 9 ~{CLOAD} (in), 10 GND (power), 11 ~{RCO} (out), 12 ~{CCLR} (in), 13 CCK (in), 14 ~{CCKEN} (in), 15 CCKEN (in), 16 RCK (in), 17 ~{RCKEN} (in), 18 ~{G} (in), 19 G (in), 20 VCC (power)

## SN74LS593DWR
designator U?
8-Bit Binary Counters With Input Registers And 3-State Outputs, DW0020A, LARGE T&R; Generic Part Number: SN74LS593; Manufacturer: Texas Instruments; PartNumber: SN74LS593DWR; VCC(Min)(V): 4.75; VCC(Max)(V): 5.25; Output Type: CMOS; Inputs: 1; ICC @ Nom Voltage(Max)(mA): 85; Input Type: TTL; Bits(#): 8; F @ Nom Voltage(Max)(Mhz): 35; Rating: Catalog; Technology Family: LS; Voltage(Nom)(V): 5; Schmitt Trigger: No; Output Drive (IOL/IOH)(Max)(mA): 24/-2.6; tpd @ Nom Voltage(Max)(ns): 63; DatasheetVersion: SDLS004; PackageReference: DW0020A; Supplier 1: Mouser; Supplier Part Number 1: 595-SN74LS593DWR; Supplier 2: Digi-Key; Supplier Part Number 2: 296-28513-2-ND; Supplier 3: Digi-Key; Supplier Part Number 3: 296-28513-1-ND; Supplier 4: Digi-Key; Supplier Part Number 4: 296-28513-6-ND; Function: Counter; Operating Temperature Range(C): 0 to 70; Type: Binary; Code_JEDEC: MS-013; ComponentLink1Description: Manufacturer URL; ComponentLink1URL: http://www.ti.com/; ComponentLink2Description: Datasheet; ComponentLink2URL: http://www.ti.com/lit/ds/symlink/sn74ls593.pdf; ComponentLink3Description: Package Specification; ComponentLink3URL: http://www.ti.com/lit/ml/mpds173a/mpds173a.pdf
footprint DW0020A_N (SOIC, 20-Leads, Body 13x7.6mm, Pitch 1.27mm, IPC Medium Density)
footprint DW0020A_M (SOIC, 20-Leads, Body 13x7.6mm, Pitch 1.27mm, IPC Low Density)
footprint DW0020A_L (SOIC, 20-Leads, Body 13x7.6mm, Pitch 1.27mm, IPC High Density)
pins: 1 A/QA (io), 2 B/QB (io), 3 C/QC (io), 4 D/QD (io), 5 E/QE (io), 6 F/QF (io), 7 G/QG (io), 8 H/QH (io), 9 ~{CLOAD} (in), 10 GND (power), 11 ~{RCO} (out), 12 ~{CCLR} (in), 13 CCK (in), 14 ~{CCKEN} (in), 15 CCKEN (in), 16 RCK (in), 17 ~{RCKEN} (in), 18 ~{G} (in), 19 G (in), 20 VCC (power)

## SN74LS593N
designator U?
8-Bit Binary Counters With Input Registers And 3-State Outputs, N0020A, TUBE; Generic Part Number: SN74LS593; Manufacturer: Texas Instruments; PartNumber: SN74LS593N; VCC(Min)(V): 4.75; VCC(Max)(V): 5.25; Output Type: CMOS; Inputs: 1; ICC @ Nom Voltage(Max)(mA): 85; Input Type: TTL; Bits(#): 8; F @ Nom Voltage(Max)(Mhz): 35; Rating: Catalog; Technology Family: LS; Voltage(Nom)(V): 5; Schmitt Trigger: No; Output Drive (IOL/IOH)(Max)(mA): 24/-2.6; tpd @ Nom Voltage(Max)(ns): 63; DatasheetVersion: SDLS004; PackageReference: N0020A; Supplier 1: Mouser; Supplier Part Number 1: 595-SN74LS593N; Supplier 2: Digi-Key; Supplier Part Number 2: 296-3719-5-ND; Function: Counter; Operating Temperature Range(C): 0 to 70; Type: Binary; Code_JEDEC: MS-001; ComponentLink1Description: Manufacturer URL; ComponentLink1URL: http://www.ti.com/; ComponentLink2Description: Datasheet; ComponentLink2URL: http://www.ti.com/lit/ds/symlink/sn74ls593.pdf; ComponentLink3Description: Package Specification; ComponentLink3URL: http://www.ti.com/lit/ml/mpdi002c/mpdi002c.pdf
footprint N0020A (DIP, 20-Leads, Body 26.9x6.6mm, Pitch 2.54mm)
pins: 1 A/QA (io), 2 B/QB (io), 3 C/QC (io), 4 D/QD (io), 5 E/QE (io), 6 F/QF (io), 7 G/QG (io), 8 H/QH (io), 9 ~{CLOAD} (in), 10 GND (power), 11 ~{RCO} (out), 12 ~{CCLR} (in), 13 CCK (in), 14 ~{CCKEN} (in), 15 CCKEN (in), 16 RCK (in), 17 ~{RCKEN} (in), 18 ~{G} (in), 19 G (in), 20 VCC (power)

## SN74LS624D
designator U?
Voltage-controlled oscillator, D0014A, TUBE; Generic Part Number: SN74LS624; Manufacturer: Texas Instruments; PartNumber: SN74LS624D; VCC(Min)(V): 4.75; VCC(Max)(V): 5.25; Output Type: TTL; ICC @ Nom Voltage(Max)(mA): 35; Bits(#): 1; Rating: Catalog; Technology Family: LS; Voltage(Nom)(V): 5; Schmitt Trigger: No; Output Drive (IOL/IOH)(Max)(mA): 24/-1.2; tpd @ Nom Voltage(Max)(ns): 15; DatasheetVersion: SDLS186; PackageReference: D0014A; Supplier 1: Mouser; Supplier Part Number 1: 595-SN74LS624D; Supplier 2: Digi-Key; Supplier Part Number 2: 296-3722-5-ND; Input Type: TTL; F @ Nom Voltage(Max)(Mhz): 35; Operating Temperature Range(C): 0 to 70; ComponentLink1Description: Manufacturer URL; ComponentLink1URL: http://www.ti.com/; ComponentLink2Description: Datasheet; ComponentLink2URL: http://www.ti.com/lit/ds/symlink/sn74ls624.pdf
footprint D0014A_N (SOIC, 14-Leads, Body 8.75x4mm, Pitch 1.27mm, IPC Medium Density)
footprint D0014A_M (SOIC, 14-Leads, Body 8.75x4mm, Pitch 1.27mm, IPC Low Density)
footprint D0014A_L (SOIC, 14-Leads, Body 8.75x4mm, Pitch 1.27mm, IPC High Density)
pins: 1 OSC GND (power), 2 RNG (in), 3 CX1, 4 CX2, 5 ~{EN} (in), 6 Y (out), 7 GND (power), 8 Z (out), 9 VCC (power), 10 NC, 11 NC, 12 NC, 13 FREQ CONT (in), 14 OSC VCC (power)

## SN74LS624DR
designator U?
Voltage-controlled oscillator, D0014A, LARGE T&R; Generic Part Number: SN74LS624; Manufacturer: Texas Instruments; PartNumber: SN74LS624DR; VCC(Min)(V): 4.75; VCC(Max)(V): 5.25; Output Type: TTL; ICC @ Nom Voltage(Max)(mA): 35; Bits(#): 1; Rating: Catalog; Technology Family: LS; Voltage(Nom)(V): 5; Schmitt Trigger: No; Output Drive (IOL/IOH)(Max)(mA): 24/-1.2; tpd @ Nom Voltage(Max)(ns): 15; DatasheetVersion: SDLS186; PackageReference: D0014A; Supplier 1: Mouser; Supplier Part Number 1: 595-SN74LS624DR; Supplier 2: Digi-Key; Supplier Part Number 2: 296-29008-2-ND; Supplier 3: Digi-Key; Supplier Part Number 3: 296-29008-1-ND; Supplier 4: Digi-Key; Supplier Part Number 4: 296-29008-6-ND; Input Type: TTL; F @ Nom Voltage(Max)(Mhz): 35; Operating Temperature Range(C): 0 to 70; ComponentLink1Description: Manufacturer URL; ComponentLink1URL: http://www.ti.com/; ComponentLink2Description: Datasheet; ComponentLink2URL: http://www.ti.com/lit/ds/symlink/sn74ls624.pdf
footprint D0014A_N (SOIC, 14-Leads, Body 8.75x4mm, Pitch 1.27mm, IPC Medium Density)
footprint D0014A_M (SOIC, 14-Leads, Body 8.75x4mm, Pitch 1.27mm, IPC Low Density)
footprint D0014A_L (SOIC, 14-Leads, Body 8.75x4mm, Pitch 1.27mm, IPC High Density)
pins: 1 OSC GND (power), 2 RNG (in), 3 CX1, 4 CX2, 5 ~{EN} (in), 6 Y (out), 7 GND (power), 8 Z (out), 9 VCC (power), 10 NC, 11 NC, 12 NC, 13 FREQ CONT (in), 14 OSC VCC (power)

## SN74LS624N
designator U?
Voltage-controlled oscillator, N0014A, TUBE; Generic Part Number: SN74LS624; Manufacturer: Texas Instruments; PartNumber: SN74LS624N; VCC(Min)(V): 4.75; VCC(Max)(V): 5.25; Output Type: TTL; ICC @ Nom Voltage(Max)(mA): 35; Bits(#): 1; Rating: Catalog; Technology Family: LS; Voltage(Nom)(V): 5; Schmitt Trigger: No; Output Drive (IOL/IOH)(Max)(mA): 24/-1.2; tpd @ Nom Voltage(Max)(ns): 15; DatasheetVersion: SDLS186; PackageReference: N0014A; Supplier 1: Mouser; Supplier Part Number 1: 595-SN74LS624N; Supplier 2: Digi-Key; Supplier Part Number 2: 296-3723-5-ND; Input Type: TTL; F @ Nom Voltage(Max)(Mhz): 35; Operating Temperature Range(C): 0 to 70; ComponentLink1Description: Manufacturer URL; ComponentLink1URL: http://www.ti.com/; ComponentLink2Description: Datasheet; ComponentLink2URL: http://www.ti.com/lit/ds/symlink/sn74ls624.pdf
footprint N0014A (DIP, 14-Leads, Body 19.7x6.6mm, Pitch 2.54mm)
pins: 1 OSC GND (power), 2 RNG (in), 3 CX1, 4 CX2, 5 ~{EN} (in), 6 Y (out), 7 GND (power), 8 Z (out), 9 VCC (power), 10 NC, 11 NC, 12 NC, 13 FREQ CONT (in), 14 OSC VCC (power)

## SN74LS624NSR
designator U?
Voltage-controlled oscillator, NS0014A, LARGE T&R; Generic Part Number: SN74LS624; Manufacturer: Texas Instruments; PartNumber: SN74LS624NSR; VCC(Min)(V): 4.75; VCC(Max)(V): 5.25; Output Type: TTL; ICC @ Nom Voltage(Max)(mA): 35; Bits(#): 1; Rating: Catalog; Technology Family: LS; Voltage(Nom)(V): 5; Schmitt Trigger: No; Output Drive (IOL/IOH)(Max)(mA): 24/-1.2; tpd @ Nom Voltage(Max)(ns): 15; DatasheetVersion: SDLS186; PackageReference: NS0014A; Supplier 1: Mouser; Supplier Part Number 1: 595-SN74LS624NSR; Supplier 2: Digi-Key; Supplier Part Number 2: SN74LS624NSR-ND; Input Type: TTL; F @ Nom Voltage(Max)(Mhz): 35; Operating Temperature Range(C): 0 to 70; ComponentLink1Description: Manufacturer URL; ComponentLink1URL: http://www.ti.com/; ComponentLink2Description: Datasheet; ComponentLink2URL: http://www.ti.com/lit/ds/symlink/sn74ls624.pdf
footprint NS0014A_N (SOIC,14-Leads,Body 10.5x5.6mm,Pitch 1.27mm,IPC Medium Density)
footprint NS0014A_M (SOIC,14-Leads,Body 10.5x5.6mm,Pitch 1.27mm,IPC Low Density)
footprint NS0014A_L (SOIC,14-Leads,Body 10.5x5.6mm,Pitch 0.4mm,IPC High Density)
pins: 1 OSC GND (power), 2 RNG (in), 3 CX1, 4 CX2, 5 ~{EN} (in), 6 Y (out), 7 GND (power), 8 Z (out), 9 VCC (power), 10 NC, 11 NC, 12 NC, 13 FREQ CONT (in), 14 OSC VCC (power)

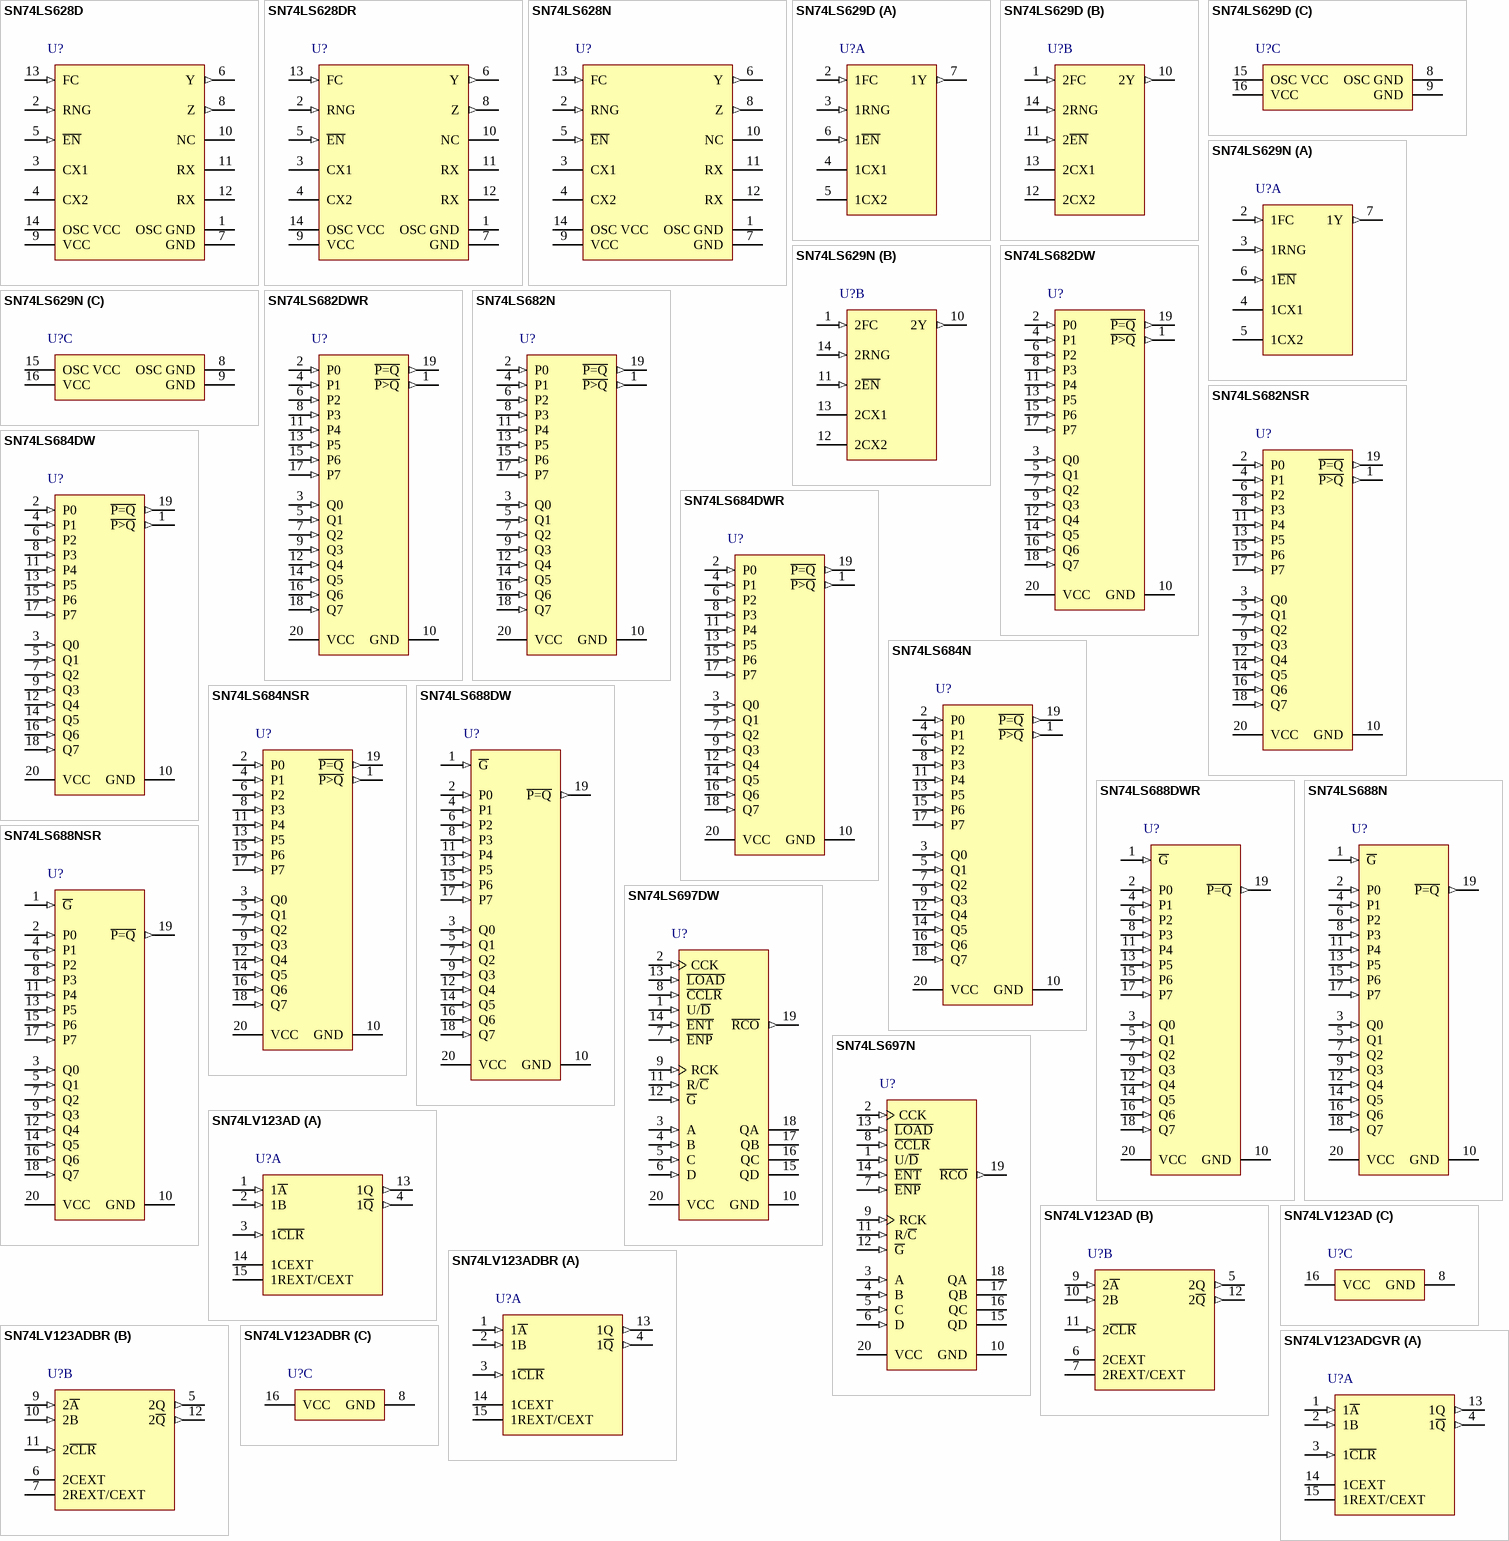
[diagram p72: symbols SN74LS628D to SN74LV123ADGVR]

## SN74LS628D
designator U?
Voltage-controlled oscillator, D0014A, TUBE; Generic Part Number: SN74LS628; Manufacturer: Texas Instruments; PartNumber: SN74LS628D; VCC(Min)(V): 4.75; VCC(Max)(V): 5.25; Output Type: TTL; ICC @ Nom Voltage(Max)(mA): 35; Bits(#): 1; Rating: Catalog; Technology Family: LS; Voltage(Nom)(V): 5; Schmitt Trigger: No; Output Drive (IOL/IOH)(Max)(mA): 24/-1.2; tpd @ Nom Voltage(Max)(ns): 15; DatasheetVersion: SDLS186; PackageReference: D0014A; Supplier 1: Mouser; Supplier Part Number 1: 595-SN74LS628D; Supplier 2: Digi-Key; Supplier Part Number 2: 296-34013-5-ND; Input Type: TTL; F @ Nom Voltage(Max)(Mhz): 35; Operating Temperature Range(C): 0 to 70; ComponentLink1Description: Manufacturer URL; ComponentLink1URL: http://www.ti.com/; ComponentLink2Description: Datasheet; ComponentLink2URL: http://www.ti.com/lit/ds/symlink/sn74ls628.pdf
footprint D0014A_N (SOIC, 14-Leads, Body 8.75x4mm, Pitch 1.27mm, IPC Medium Density)
footprint D0014A_M (SOIC, 14-Leads, Body 8.75x4mm, Pitch 1.27mm, IPC Low Density)
footprint D0014A_L (SOIC, 14-Leads, Body 8.75x4mm, Pitch 1.27mm, IPC High Density)
pins: 1 OSC GND (power), 2 RNG (in), 3 CX1, 4 CX2, 5 ~{EN} (in), 6 Y (out), 7 GND (power), 8 Z (out), 9 VCC (power), 10 NC, 11 RX, 12 RX, 13 FC (in), 14 OSC VCC (power)

## SN74LS628DR
designator U?
Voltage-controlled oscillator, D0014A, LARGE T&R; Generic Part Number: SN74LS628; Manufacturer: Texas Instruments; PartNumber: SN74LS628DR; VCC(Min)(V): 4.75; VCC(Max)(V): 5.25; Output Type: TTL; ICC @ Nom Voltage(Max)(mA): 35; Bits(#): 1; Rating: Catalog; Technology Family: LS; Voltage(Nom)(V): 5; Schmitt Trigger: No; Output Drive (IOL/IOH)(Max)(mA): 24/-1.2; tpd @ Nom Voltage(Max)(ns): 15; DatasheetVersion: SDLS186; PackageReference: D0014A; Supplier 1: Mouser; Supplier Part Number 1: 595-SN74LS628DR; Supplier 2: Digi-Key; Supplier Part Number 2: 296-37424-2-ND; Supplier 3: Digi-Key; Supplier Part Number 3: 296-37424-1-ND; Supplier 4: Digi-Key; Supplier Part Number 4: 296-37424-6-ND; Input Type: TTL; F @ Nom Voltage(Max)(Mhz): 35; Operating Temperature Range(C): 0 to 70; ComponentLink1Description: Manufacturer URL; ComponentLink1URL: http://www.ti.com/; ComponentLink2Description: Datasheet; ComponentLink2URL: http://www.ti.com/lit/ds/symlink/sn74ls628.pdf
footprint D0014A_N (SOIC, 14-Leads, Body 8.75x4mm, Pitch 1.27mm, IPC Medium Density)
footprint D0014A_M (SOIC, 14-Leads, Body 8.75x4mm, Pitch 1.27mm, IPC Low Density)
footprint D0014A_L (SOIC, 14-Leads, Body 8.75x4mm, Pitch 1.27mm, IPC High Density)
pins: 1 OSC GND (power), 2 RNG (in), 3 CX1, 4 CX2, 5 ~{EN} (in), 6 Y (out), 7 GND (power), 8 Z (out), 9 VCC (power), 10 NC, 11 RX, 12 RX, 13 FC (in), 14 OSC VCC (power)

## SN74LS628N
designator U?
Voltage-controlled oscillator, N0014A, TUBE; Generic Part Number: SN74LS628; Manufacturer: Texas Instruments; PartNumber: SN74LS628N; VCC(Min)(V): 4.75; VCC(Max)(V): 5.25; Output Type: TTL; ICC @ Nom Voltage(Max)(mA): 35; Bits(#): 1; Rating: Catalog; Technology Family: LS; Voltage(Nom)(V): 5; Schmitt Trigger: No; Output Drive (IOL/IOH)(Max)(mA): 24/-1.2; tpd @ Nom Voltage(Max)(ns): 15; DatasheetVersion: SDLS186; PackageReference: N0014A; Supplier 1: Mouser; Supplier Part Number 1: 595-SN74LS628N; Supplier 2: Digi-Key; Supplier Part Number 2: 296-3724-5-ND; Input Type: TTL; F @ Nom Voltage(Max)(Mhz): 35; Operating Temperature Range(C): 0 to 70; ComponentLink1Description: Manufacturer URL; ComponentLink1URL: http://www.ti.com/; ComponentLink2Description: Datasheet; ComponentLink2URL: http://www.ti.com/lit/ds/symlink/sn74ls628.pdf
footprint N0014A (DIP, 14-Leads, Body 19.7x6.6mm, Pitch 2.54mm)
pins: 1 OSC GND (power), 2 RNG (in), 3 CX1, 4 CX2, 5 ~{EN} (in), 6 Y (out), 7 GND (power), 8 Z (out), 9 VCC (power), 10 NC, 11 RX, 12 RX, 13 FC (in), 14 OSC VCC (power)

## SN74LS629D
designator U?
Dual voltage-controlled oscillators, D0016A, TUBE; Generic Part Number: SN74LS629; Manufacturer: Texas Instruments; PartNumber: SN74LS629D; VCC(Min)(V): 4.75; VCC(Max)(V): 5.25; Output Type: TTL; ICC @ Nom Voltage(Max)(mA): 55; Bits(#): 2; F @ Nom Voltage(Max)(Mhz): 35; Rating: Catalog; Technology Family: LS; Voltage(Nom)(V): 5; Schmitt Trigger: No; Output Drive (IOL/IOH)(Max)(mA): 24/-1.2; tpd @ Nom Voltage(Max)(ns): 15; DatasheetVersion: SDLS186; PackageReference: D0016A; Supplier 1: Mouser; Supplier Part Number 1: 595-SN74LS629D; Supplier 2: Digi-Key; Supplier Part Number 2: 296-34014-5-ND; Input Type: TTL; Operating Temperature Range(C): 0 to 70; ComponentLink1Description: Manufacturer URL; ComponentLink1URL: http://www.ti.com/; ComponentLink2Description: Datasheet; ComponentLink2URL: http://www.ti.com/lit/ds/symlink/sn74ls629.pdf
footprint D0016A_N (SOIC, 16-Leads, Body 10x4mm, Pitch 1.27mm, IPC Medium Density)
footprint D0016A_M (SOIC, 16-Leads, Body 10x4mm, Pitch 1.27mm, IPC Low Density)
footprint D0016A_L (SOIC, 16-Leads, Body 10x4mm, Pitch 1.27mm, IPC High Density)
part A pins: 2 1FC (in), 3 1RNG (in), 4 1CX1, 5 1CX2, 6 1~{EN} (in), 7 1Y (out)
part B pins: 1 2FC (in), 10 2Y (out), 11 2~{EN} (in), 12 2CX2, 13 2CX1, 14 2RNG (in)
part C pins: 8 OSC GND (power), 9 GND (power), 15 OSC VCC (power), 16 VCC (power)

## SN74LS629N
designator U?
Dual voltage-controlled oscillators, N0016A, TUBE; Generic Part Number: SN74LS629; Manufacturer: Texas Instruments; PartNumber: SN74LS629N; VCC(Min)(V): 4.75; VCC(Max)(V): 5.25; Output Type: TTL; ICC @ Nom Voltage(Max)(mA): 55; Bits(#): 2; F @ Nom Voltage(Max)(Mhz): 35; Rating: Catalog; Technology Family: LS; Voltage(Nom)(V): 5; Schmitt Trigger: No; Output Drive (IOL/IOH)(Max)(mA): 24/-1.2; tpd @ Nom Voltage(Max)(ns): 15; DatasheetVersion: SDLS186; PackageReference: N0016A; Supplier 1: Mouser; Supplier Part Number 1: 595-SN74LS629N; Supplier 2: Digi-Key; Supplier Part Number 2: 296-3725-5-ND; Input Type: TTL; Operating Temperature Range(C): 0 to 70; ComponentLink1Description: Manufacturer URL; ComponentLink1URL: http://www.ti.com/; ComponentLink2Description: Datasheet; ComponentLink2URL: http://www.ti.com/lit/ds/symlink/sn74ls629.pdf
footprint N0016A (DIP, 16-Leads, Body 19.7x6.6mm, Pitch 2.54mm)
part A pins: 2 1FC (in), 3 1RNG (in), 4 1CX1, 5 1CX2, 6 1~{EN} (in), 7 1Y (out)
part B pins: 1 2FC (in), 10 2Y (out), 11 2~{EN} (in), 12 2CX2, 13 2CX1, 14 2RNG (in)
part C pins: 8 OSC GND (power), 9 GND (power), 15 OSC VCC (power), 16 VCC (power)

## SN74LS682DW
designator U?
8-Bit Identity/Magnitude Comparators, DW0020A, TUBE; Generic Part Number: SN74LS682; Manufacturer: Texas Instruments; PartNumber: SN74LS682DW; VCC(Min)(V): 4.85; VCC(Max)(V): 5.25; Output Type: TTL; ICC @ Nom Voltage(Max)(mA): 70; Bits(#): 8; F @ Nom Voltage(Max)(Mhz): 35; Rating: Catalog; Technology Family: LS; Voltage(Nom)(V): 5; Schmitt Trigger: No; Output Drive (IOL/IOH)(Max)(mA): 24/-0.4; tpd @ Nom Voltage(Max)(ns): 30; DatasheetVersion: SDLS008; PackageReference: DW0020A; Supplier 1: Mouser; Supplier Part Number 1: 595-SN74LS682DW; Supplier 2: Digi-Key; Supplier Part Number 2: 296-34026-5-ND; Input Type: TTL; Operating Temperature Range(C): 0 to 70; ComponentLink1Description: Manufacturer URL; ComponentLink1URL: http://www.ti.com/; ComponentLink2Description: Datasheet; ComponentLink2URL: http://www.ti.com/lit/ds/symlink/sn74ls682.pdf
footprint DW0020A_N (SOIC, 20-Leads, Body 13x7.6mm, Pitch 1.27mm, IPC Medium Density)
footprint DW0020A_M (SOIC, 20-Leads, Body 13x7.6mm, Pitch 1.27mm, IPC Low Density)
footprint DW0020A_L (SOIC, 20-Leads, Body 13x7.6mm, Pitch 1.27mm, IPC High Density)
pins: 1 ~{P>Q} (out), 2 P0 (in), 3 Q0 (in), 4 P1 (in), 5 Q1 (in), 6 P2 (in), 7 Q2 (in), 8 P3 (in), 9 Q3 (in), 10 GND (power), 11 P4 (in), 12 Q4 (in), 13 P5 (in), 14 Q5 (in), 15 P6 (in), 16 Q6 (in), 17 P7 (in), 18 Q7 (in), 19 ~{P=Q} (out), 20 VCC (power)

## SN74LS682DWR
designator U?
8-Bit Identity/Magnitude Comparators, DW0020A, LARGE T&R; Generic Part Number: SN74LS682; Manufacturer: Texas Instruments; PartNumber: SN74LS682DWR; VCC(Min)(V): 4.85; VCC(Max)(V): 5.25; Output Type: TTL; ICC @ Nom Voltage(Max)(mA): 70; Bits(#): 8; F @ Nom Voltage(Max)(Mhz): 35; Rating: Catalog; Technology Family: LS; Voltage(Nom)(V): 5; Schmitt Trigger: No; Output Drive (IOL/IOH)(Max)(mA): 24/-0.4; tpd @ Nom Voltage(Max)(ns): 30; DatasheetVersion: SDLS008; PackageReference: DW0020A; Supplier 1: Mouser; Supplier Part Number 1: 595-SN74LS682DWR; Supplier 2: Digi-Key; Supplier Part Number 2: SN74LS682DWR-ND; Input Type: TTL; Operating Temperature Range(C): 0 to 70; ComponentLink1Description: Manufacturer URL; ComponentLink1URL: http://www.ti.com/; ComponentLink2Description: Datasheet; ComponentLink2URL: http://www.ti.com/lit/ds/symlink/sn74ls682.pdf
footprint DW0020A_N (SOIC, 20-Leads, Body 13x7.6mm, Pitch 1.27mm, IPC Medium Density)
footprint DW0020A_M (SOIC, 20-Leads, Body 13x7.6mm, Pitch 1.27mm, IPC Low Density)
footprint DW0020A_L (SOIC, 20-Leads, Body 13x7.6mm, Pitch 1.27mm, IPC High Density)
pins: 1 ~{P>Q} (out), 2 P0 (in), 3 Q0 (in), 4 P1 (in), 5 Q1 (in), 6 P2 (in), 7 Q2 (in), 8 P3 (in), 9 Q3 (in), 10 GND (power), 11 P4 (in), 12 Q4 (in), 13 P5 (in), 14 Q5 (in), 15 P6 (in), 16 Q6 (in), 17 P7 (in), 18 Q7 (in), 19 ~{P=Q} (out), 20 VCC (power)

## SN74LS682N
designator U?
8-Bit Identity/Magnitude Comparators, N0020A, TUBE; Generic Part Number: SN74LS682; Manufacturer: Texas Instruments; PartNumber: SN74LS682N; VCC(Min)(V): 4.85; VCC(Max)(V): 5.25; Output Type: TTL; ICC @ Nom Voltage(Max)(mA): 70; Bits(#): 8; F @ Nom Voltage(Max)(Mhz): 35; Rating: Catalog; Technology Family: LS; Voltage(Nom)(V): 5; Schmitt Trigger: No; Output Drive (IOL/IOH)(Max)(mA): 24/-0.4; tpd @ Nom Voltage(Max)(ns): 30; DatasheetVersion: SDLS008; PackageReference: N0020A; Supplier 1: Mouser; Supplier Part Number 1: 595-SN74LS682N; Supplier 2: Digi-Key; Supplier Part Number 2: 296-14898-5-ND; Input Type: TTL; Operating Temperature Range(C): 0 to 70; ComponentLink1Description: Manufacturer URL; ComponentLink1URL: http://www.ti.com/; ComponentLink2Description: Datasheet; ComponentLink2URL: http://www.ti.com/lit/ds/symlink/sn74ls682.pdf
footprint N0020A (DIP, 20-Leads, Body 26.9x6.6mm, Pitch 2.54mm)
pins: 1 ~{P>Q} (out), 2 P0 (in), 3 Q0 (in), 4 P1 (in), 5 Q1 (in), 6 P2 (in), 7 Q2 (in), 8 P3 (in), 9 Q3 (in), 10 GND (power), 11 P4 (in), 12 Q4 (in), 13 P5 (in), 14 Q5 (in), 15 P6 (in), 16 Q6 (in), 17 P7 (in), 18 Q7 (in), 19 ~{P=Q} (out), 20 VCC (power)

## SN74LS682NSR
designator U?
8-Bit Identity/Magnitude Comparators, NS0020A, LARGE T&R; Generic Part Number: SN74LS682; Manufacturer: Texas Instruments; PartNumber: SN74LS682NSR; VCC(Min)(V): 4.85; VCC(Max)(V): 5.25; Output Type: TTL; ICC @ Nom Voltage(Max)(mA): 70; Bits(#): 8; F @ Nom Voltage(Max)(Mhz): 35; Rating: Catalog; Technology Family: LS; Voltage(Nom)(V): 5; Schmitt Trigger: No; Output Drive (IOL/IOH)(Max)(mA): 24/-0.4; tpd @ Nom Voltage(Max)(ns): 30; DatasheetVersion: SDLS008; PackageReference: NS0020A; Supplier 1: Mouser; Supplier Part Number 1: 595-SN74LS682NSR; Supplier 2: Digi-Key; Supplier Part Number 2: 296-28851-2-ND; Supplier 3: Digi-Key; Supplier Part Number 3: 296-28851-1-ND; Supplier 4: Digi-Key; Supplier Part Number 4: 296-28851-6-ND; Input Type: TTL; Operating Temperature Range(C): 0 to 70; ComponentLink1Description: Manufacturer URL; ComponentLink1URL: http://www.ti.com/; ComponentLink2Description: Datasheet; ComponentLink2URL: http://www.ti.com/lit/ds/symlink/sn74ls682.pdf
footprint NS0020A_N (SOIC,20-Leads,Body 12.9x5.6mm,Pitch 1.27mm,IPC Medium Density)
footprint NS0020A_M (SOIC,20-Leads,Body 12.9x5.6mm,Pitch 1.27mm,IPC Low Density)
footprint NS0020A_L (SOIC,20-Leads,Body 12.9x5.6mm,Pitch 1.27mm,IPC High Density)
pins: 1 ~{P>Q} (out), 2 P0 (in), 3 Q0 (in), 4 P1 (in), 5 Q1 (in), 6 P2 (in), 7 Q2 (in), 8 P3 (in), 9 Q3 (in), 10 GND (power), 11 P4 (in), 12 Q4 (in), 13 P5 (in), 14 Q5 (in), 15 P6 (in), 16 Q6 (in), 17 P7 (in), 18 Q7 (in), 19 ~{P=Q} (out), 20 VCC (power)